# Altium schematic symbol library sm_fuse.SchLib: 2 symbols
Pins are listed as number, name and electrical type; pins without a type are passive.

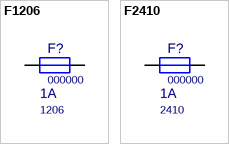
[diagram p0: symbols F1206 to F2410]

## F1206
designator F?, comment 000000  value 1A  Package: 1206
PN: 000000; ExtraInfo: *
footprint F1206 (Chip Fuse)
footprint F1206L (Chip Fuse 1206 - Low Density)
pins: 1, 2

## F2410
designator F?, comment 000000  value 1A  Package: 2410
PN: 000000; ExtraInfo: *; MF: *; MF PN: *
footprint F2410 (SMD Fuse)
pins: 1, 2